# Altium integrated library Microchip PIC16 Part 1.IntLib: 1800 symbols (part 26 of 93)
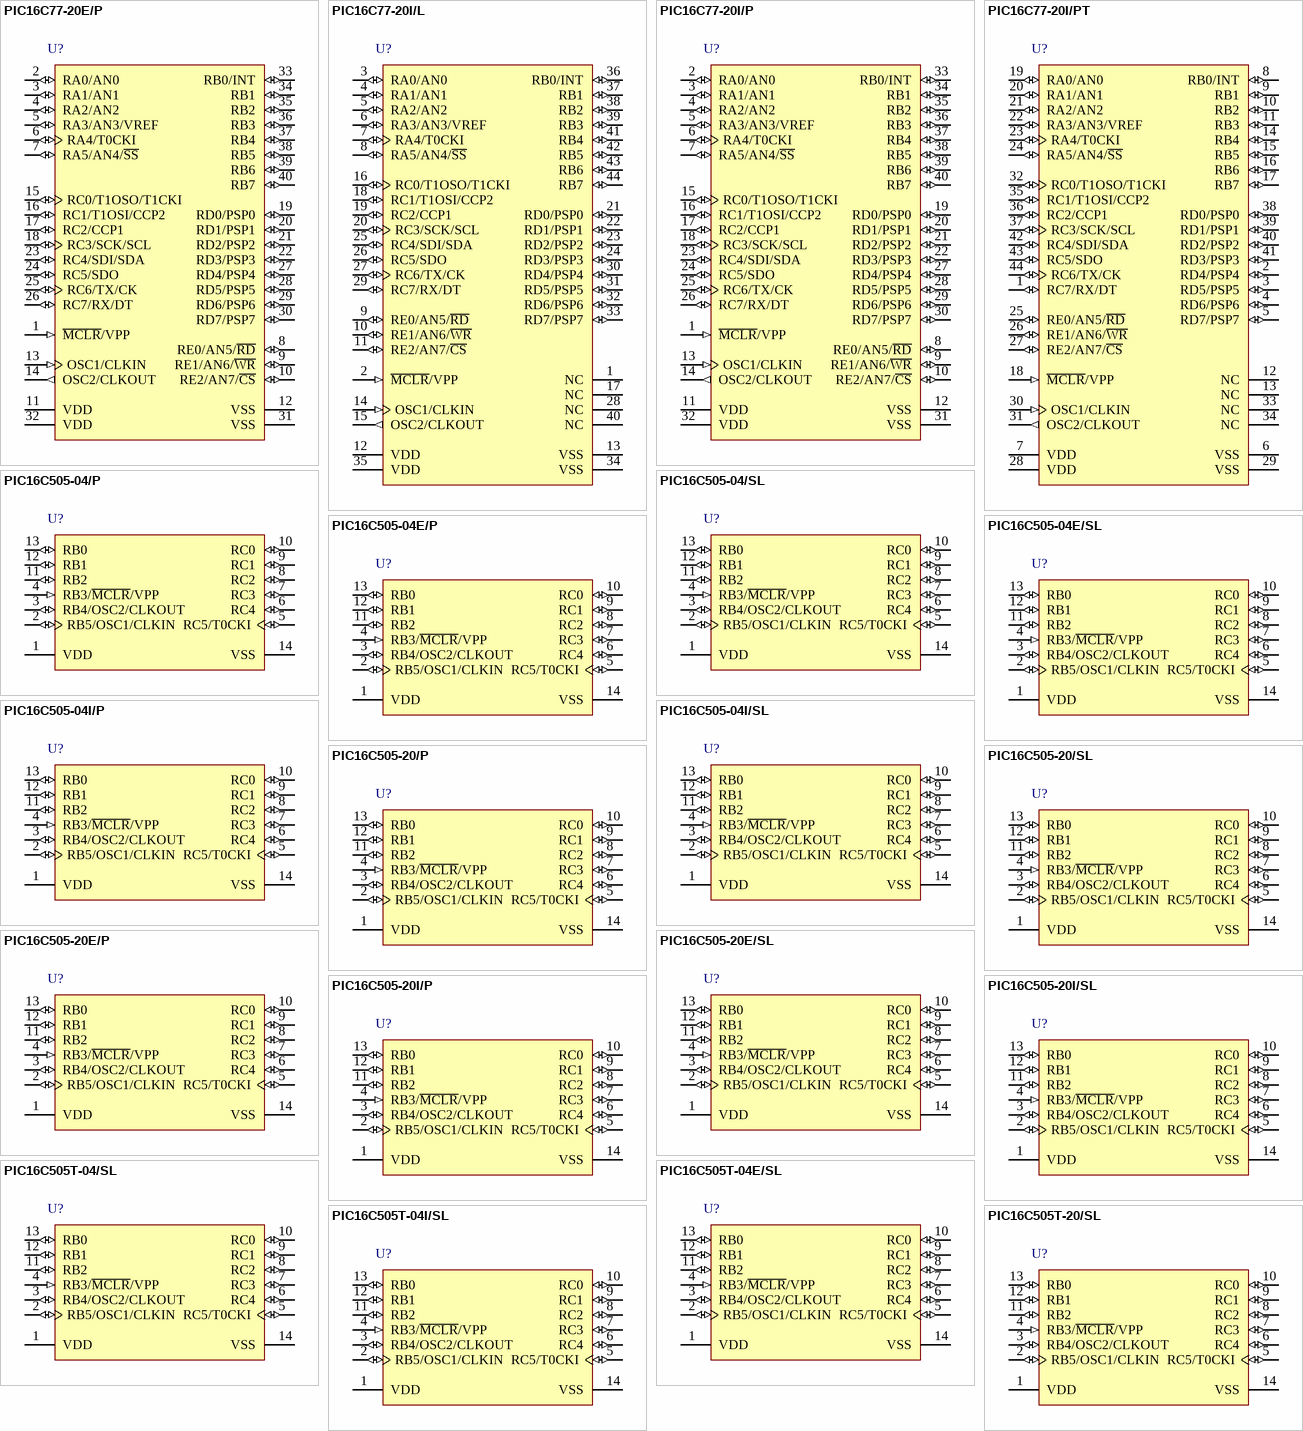
[diagram p125: symbols PIC16C77-20E/P to PIC16C505T-20/SL]

## PIC16C77-20I/PT
designator U?
8-Bit CMOS Microcontroller with A/D Converter, 20 MHz, 33 I/O, -40 to 85 degC, 44-pin TQFP (PT44), Tray; Manufacturer: Microchip; PartNumber: PIC16C77-20I/PT; # of A/D Channels: 8; Digital Communication: 0 -UART, 1 -A/E/USART, 0 -SPI, 0 -I2C, 0 -MSSP(SPI/I2C), 1 -SSP(SPI/I2C); I/O Pins: 33; Max. CPU Speed MHz: 20; Memory Type: OTP; Operation Voltage Range: 2.5V - 6V; Program Memory KBytes: 14; RAM: 368; Timers: 2 - 8-bit, 1 - 16-bit; DatasheetVersion: Rev. E; PackageVersion: C04-076B, 12/2012; PackageReference: TQFP-PT44; PackageDescription: 44-Lead Plastic Thin Quad Flatpack, 10 x 10 mm Body, 0.8 mm Pitch; Supplier 1: Digi-Key; Supplier Part Number 1: PIC16C77-20I/PT-ND; Supplier 2: Mouser; Supplier Part Number 2: 579-PIC16C77-20I/PT; Packing: TRAY; Program Memory KWords: 8; RoHS: TRUE; Mounting Technology: Surface Mount; ComponentLink1Description: Datasheet; ComponentLink1URL: http://ww1.microchip.com/downloads/en/DeviceDoc/30390e.pdf; ComponentLink2Description: Package Specification; ComponentLink2URL: http://www.microchip.com/stellent/groups/techpub_sg/documents/packagingspec/en012702.pdf; ComponentLink3Description: URL Link1; ComponentLink3URL: Product URL:http://www.microchip.com/datasheet/PIC16C77
footprint MCHP-TQFP-PT44_N (QFN, 44-Leads, Body 10x10mm, Pitch 0.8mm, IPC Medium Density)
footprint MCHP-TQFP-PT44_L (QFN, 44-Leads, Body 10x10mm, Pitch 0.8mm, IPC High Density)
footprint MCHP-TQFP-PT44_M (QFN, 44-Leads, Body 10x10mm, Pitch 0.8mm, IPC Low Density)
pins: 1 RC7/RX/DT (io), 2 RD4/PSP4 (io), 3 RD5/PSP5 (io), 4 RD6/PSP6 (io), 5 RD7/PSP7 (io), 6 VSS (power) "Ground reference for logic and I/O pins.", 7 VDD (power) "Positive supply for logic and I/O pins.", 8 RB0/INT (io), 9 RB1 (io) "PORTB is a bi-directional I/O port. PORTB can be software programmed for internal weak pull-up on all inputs.", 10 RB2 (io) "PORTB is a bi-directional I/O port. PORTB can be software programmed for internal weak pull-up on all inputs.", 11 RB3 (io) "PORTB is a bi-directional I/O port. PORTB can be software programmed for internal weak pull-up on all inputs.", 12 NC "These pins are not internally connected. These pins should be left unconnected.", 13 NC "These pins are not internally connected. These pins should be left unconnected.", 14 RB4 (io) "PORTB is a bi-directional I/O port. PORTB can be software programmed for internal weak pull-up on all inputs. Interrupt on change pin.", 15 RB5 (io) "PORTB is a bi-directional I/O port. PORTB can be software programmed for internal weak pull-up on all inputs. Interrupt on change pin.", 16 RB6 (io) "PORTB is a bi-directional I/O port. PORTB can be software programmed for internal weak pull-up on all inputs. Interrupt on change pin. Serial programming clock.", 17 RB7 (io) "PORTB is a bi-directional I/O port. PORTB can be software programmed for internal weak pull-up on all inputs. Interrupt on change pin. Serial programming data.", 18 ~{MCLR}/VPP (in), 19 RA0/AN0 (io), 20 RA1/AN1 (io), 21 RA2/AN2 (io), 22 RA3/AN3/VREF (io), 23 RA4/T0CKI (io), 24 RA5/AN4/~{SS} (io), 25 RE0/AN5/~{RD} (io), 26 RE1/AN6/~{WR} (io), 27 RE2/AN7/~{CS} (io), 28 VDD (power) "Positive supply for logic and I/O pins.", 29 VSS (power) "Ground reference for logic and I/O pins.", 30 OSC1/CLKIN (in), 31 OSC2/CLKOUT (out), 32 RC0/T1OSO/T1CKI (io), 33 NC "These pins are not internally connected. These pins should be left unconnected.", 34 NC "These pins are not internally connected. These pins should be left unconnected.", 35 RC1/T1OSI/CCP2 (io), 36 RC2/CCP1 (io), 37 RC3/SCK/SCL (io), 38 RD0/PSP0 (io), 39 RD1/PSP1 (io), 40 RD2/PSP2 (io), 41 RD3/PSP3 (io), 42 RC4/SDI/SDA (io), 43 RC5/SDO (io), 44 RC6/TX/CK (io)

## PIC16C505-04/P
designator U?
8-Bit CMOS Microcontroller, 4 MHz, 11 I/O, 0 to 70 degC, 14-pin PDIP (P14), Tube; Manufacturer: Microchip; PartNumber: PIC16C505-04/P; Digital Communication: 0 -UART, 0 -A/E/USART, 0 -SPI, 0 -I2C; I/O Pins: 11; Internal Oscillator: 4 MHz; Max. CPU Speed MHz: 4; Memory Type: OTP; Operation Voltage Range: 2.5V - 5.5V; Program Memory KBytes: 1.5; Program Memory KWords: 1; RAM: 72; Timers: 1 - 8-bit; DatasheetVersion: Rev. D; PackageVersion: C04-005B, 12/2012; PackageReference: PDIP-P14; PackageDescription: 14-Lead Plastic Dual In-Line, 6.6 x 19.18 mm Body, 2.54 mm Pitch; Supplier 1: Digi-Key; Supplier Part Number 1: PIC16C505-04/P-ND; Supplier 2: Farnell; Supplier Part Number 2: 9759077; Supplier 3: Newark; Supplier Part Number 3: 61K3435; Supplier 4: Mouser; Supplier Part Number 4: 579-PIC16C50504P; Packing: TUBE; RoHS: TRUE; Mounting Technology: Through Hole; ComponentLink1Description: Datasheet; ComponentLink1URL: http://ww1.microchip.com/downloads/en/DeviceDoc/40192D.pdf; ComponentLink2Description: Package Specification; ComponentLink2URL: http://www.microchip.com/stellent/groups/techpub_sg/documents/packagingspec/en012702.pdf; ComponentLink3Description: URL Link1; ComponentLink3URL: Product URL:http://www.microchip.com/datasheet/PIC16C505
footprint MCHP-PDIP-P14 (DIP, 14-Leads, Body 19.177x6.604mm, Pitch 2.54mm)
pins: 1 VDD (power) "Positive supply for logic and I/O pins", 2 RB5/OSC1/CLKIN (io), 3 RB4/OSC2/CLKOUT (io), 4 RB3/~{MCLR}/VPP (in), 5 RC5/T0CKI (io), 6 RC4 (io) "Bi-directional I/O port.", 7 RC3 (io) "Bi-directional I/O port.", 8 RC2 (io) "Bi-directional I/O port.", 9 RC1 (io) "Bi-directional I/O port.", 10 RC0 (io) "Bi-directional I/O port.", 11 RB2 (io) "Bi-directional I/O port.", 12 RB1 (io) "Bi-directional I/O port/serial programming clock. Canbe software programmed for internal weak pull-up and wake-up from SLEEP on pin change. This buffer is aSchmitt Trigger input when used in serial programmingmode.", 13 RB0 (io) "Bi-directional I/O port/serial programming data. Can be software programmed for internal weak pull-up and wake-up from SLEEP on pin change. This buffer is a Schmitt Trigger input when used in serial programming mode.", 14 VSS (power) "Ground reference for logic and I/O pins"

## PIC16C505-04/SL
designator U?
8-Bit CMOS Microcontroller, 4 MHz, 11 I/O, 0 to 70 degC, 14-pin SOIC (SL14), Tube; Manufacturer: Microchip; PartNumber: PIC16C505-04/SL; Digital Communication: 0 -UART, 0 -A/E/USART, 0 -SPI, 0 -I2C; I/O Pins: 11; Internal Oscillator: 4 MHz; Max. CPU Speed MHz: 4; Memory Type: OTP; Operation Voltage Range: 2.5V - 5.5V; Program Memory KBytes: 1.5; Program Memory KWords: 1; RAM: 72; Timers: 1 - 8-bit; DatasheetVersion: Rev. D; PackageVersion: C04-065C, 12/2012; PackageReference: SOIC-SL14; PackageDescription: 14-Lead Plastic Small Outline, 8.65 x 3.9 mm Body, 1.27 mm Pitch; Supplier 1: Digi-Key; Supplier Part Number 1: PIC16C505-04/SL-ND; Supplier 2: Farnell; Supplier Part Number 2: 9759085; Supplier 3: Newark; Supplier Part Number 3: 97K7168; Supplier 4: Newark; Supplier Part Number 4: 96K3781; Supplier 5: Mouser; Supplier Part Number 5: 579-PIC16C50504SL; Packing: TUBE; RoHS: TRUE; Mounting Technology: Surface Mount; ComponentLink1Description: Datasheet; ComponentLink1URL: http://ww1.microchip.com/downloads/en/DeviceDoc/40192D.pdf; ComponentLink2Description: Package Specification; ComponentLink2URL: http://www.microchip.com/stellent/groups/techpub_sg/documents/packagingspec/en012702.pdf; ComponentLink3Description: URL Link1; ComponentLink3URL: Product URL:http://www.microchip.com/datasheet/PIC16C505
footprint MCHP-SOIC-SL14_N (SOIC, 14-Leads, Body 8.65x3.9mm, Pitch 1.27mm, IPC Medium Density)
footprint MCHP-SOIC-SL14_L (SOIC, 14-Leads, Body 8.65x3.9mm, Pitch 1.27mm, IPC High Density)
footprint MCHP-SOIC-SL14_M (SOIC, 14-Leads, Body 8.65x3.9mm, Pitch 1.27mm, IPC Low Density)
pins: 1 VDD (power) "Positive supply for logic and I/O pins", 2 RB5/OSC1/CLKIN (io), 3 RB4/OSC2/CLKOUT (io), 4 RB3/~{MCLR}/VPP (in), 5 RC5/T0CKI (io), 6 RC4 (io) "Bi-directional I/O port.", 7 RC3 (io) "Bi-directional I/O port.", 8 RC2 (io) "Bi-directional I/O port.", 9 RC1 (io) "Bi-directional I/O port.", 10 RC0 (io) "Bi-directional I/O port.", 11 RB2 (io) "Bi-directional I/O port.", 12 RB1 (io) "Bi-directional I/O port/serial programming clock. Canbe software programmed for internal weak pull-up and wake-up from SLEEP on pin change. This buffer is aSchmitt Trigger input when used in serial programmingmode.", 13 RB0 (io) "Bi-directional I/O port/serial programming data. Can be software programmed for internal weak pull-up and wake-up from SLEEP on pin change. This buffer is a Schmitt Trigger input when used in serial programming mode.", 14 VSS (power) "Ground reference for logic and I/O pins"

## PIC16C505-04E/P
designator U?
8-Bit CMOS Microcontroller, 4 MHz, 11 I/O, -40 to 125 degC, 14-pin PDIP (P14), Tube; Manufacturer: Microchip; PartNumber: PIC16C505-04E/P; Digital Communication: 0 -UART, 0 -A/E/USART, 0 -SPI, 0 -I2C; I/O Pins: 11; Internal Oscillator: 4 MHz; Max. CPU Speed MHz: 4; Memory Type: OTP; Operation Voltage Range: 2.5V - 5.5V; Program Memory KBytes: 1.5; Program Memory KWords: 1; RAM: 72; Timers: 1 - 8-bit; DatasheetVersion: Rev. D; PackageVersion: C04-005B, 12/2012; PackageReference: PDIP-P14; PackageDescription: 14-Lead Plastic Dual In-Line, 6.6 x 19.18 mm Body, 2.54 mm Pitch; Supplier 1: Digi-Key; Supplier Part Number 1: PIC16C505-04E/P-ND; Supplier 2: Mouser; Supplier Part Number 2: 579-PIC16C505-04E/P; Packing: TUBE; RoHS: TRUE; Mounting Technology: Through Hole; ComponentLink1Description: Datasheet; ComponentLink1URL: http://ww1.microchip.com/downloads/en/DeviceDoc/40192D.pdf; ComponentLink2Description: Package Specification; ComponentLink2URL: http://www.microchip.com/stellent/groups/techpub_sg/documents/packagingspec/en012702.pdf; ComponentLink3Description: URL Link1; ComponentLink3URL: Product URL:http://www.microchip.com/datasheet/PIC16C505
footprint MCHP-PDIP-P14 (DIP, 14-Leads, Body 19.177x6.604mm, Pitch 2.54mm)
pins: 1 VDD (power) "Positive supply for logic and I/O pins", 2 RB5/OSC1/CLKIN (io), 3 RB4/OSC2/CLKOUT (io), 4 RB3/~{MCLR}/VPP (in), 5 RC5/T0CKI (io), 6 RC4 (io) "Bi-directional I/O port.", 7 RC3 (io) "Bi-directional I/O port.", 8 RC2 (io) "Bi-directional I/O port.", 9 RC1 (io) "Bi-directional I/O port.", 10 RC0 (io) "Bi-directional I/O port.", 11 RB2 (io) "Bi-directional I/O port.", 12 RB1 (io) "Bi-directional I/O port/serial programming clock. Canbe software programmed for internal weak pull-up and wake-up from SLEEP on pin change. This buffer is aSchmitt Trigger input when used in serial programmingmode.", 13 RB0 (io) "Bi-directional I/O port/serial programming data. Can be software programmed for internal weak pull-up and wake-up from SLEEP on pin change. This buffer is a Schmitt Trigger input when used in serial programming mode.", 14 VSS (power) "Ground reference for logic and I/O pins"

## PIC16C505-04E/SL
designator U?
8-Bit CMOS Microcontroller, 4 MHz, 11 I/O, -40 to 125 degC, 14-pin SOIC (SL14), Tube; Manufacturer: Microchip; PartNumber: PIC16C505-04E/SL; Digital Communication: 0 -UART, 0 -A/E/USART, 0 -SPI, 0 -I2C; I/O Pins: 11; Internal Oscillator: 4 MHz; Max. CPU Speed MHz: 4; Memory Type: OTP; Operation Voltage Range: 2.5V - 5.5V; Program Memory KBytes: 1.5; Program Memory KWords: 1; RAM: 72; Timers: 1 - 8-bit; DatasheetVersion: Rev. D; PackageVersion: C04-065C, 12/2012; PackageReference: SOIC-SL14; PackageDescription: 14-Lead Plastic Small Outline, 8.65 x 3.9 mm Body, 1.27 mm Pitch; Supplier 1: Digi-Key; Supplier Part Number 1: PIC16C505-04E/SL-ND; Supplier 2: Mouser; Supplier Part Number 2: 579-PIC16C505-04E/SL; Packing: TUBE; RoHS: TRUE; Mounting Technology: Surface Mount; ComponentLink1Description: Datasheet; ComponentLink1URL: http://ww1.microchip.com/downloads/en/DeviceDoc/40192D.pdf; ComponentLink2Description: Package Specification; ComponentLink2URL: http://www.microchip.com/stellent/groups/techpub_sg/documents/packagingspec/en012702.pdf; ComponentLink3Description: URL Link1; ComponentLink3URL: Product URL:http://www.microchip.com/datasheet/PIC16C505
footprint MCHP-SOIC-SL14_N (SOIC, 14-Leads, Body 8.65x3.9mm, Pitch 1.27mm, IPC Medium Density)
footprint MCHP-SOIC-SL14_L (SOIC, 14-Leads, Body 8.65x3.9mm, Pitch 1.27mm, IPC High Density)
footprint MCHP-SOIC-SL14_M (SOIC, 14-Leads, Body 8.65x3.9mm, Pitch 1.27mm, IPC Low Density)
pins: 1 VDD (power) "Positive supply for logic and I/O pins", 2 RB5/OSC1/CLKIN (io), 3 RB4/OSC2/CLKOUT (io), 4 RB3/~{MCLR}/VPP (in), 5 RC5/T0CKI (io), 6 RC4 (io) "Bi-directional I/O port.", 7 RC3 (io) "Bi-directional I/O port.", 8 RC2 (io) "Bi-directional I/O port.", 9 RC1 (io) "Bi-directional I/O port.", 10 RC0 (io) "Bi-directional I/O port.", 11 RB2 (io) "Bi-directional I/O port.", 12 RB1 (io) "Bi-directional I/O port/serial programming clock. Canbe software programmed for internal weak pull-up and wake-up from SLEEP on pin change. This buffer is aSchmitt Trigger input when used in serial programmingmode.", 13 RB0 (io) "Bi-directional I/O port/serial programming data. Can be software programmed for internal weak pull-up and wake-up from SLEEP on pin change. This buffer is a Schmitt Trigger input when used in serial programming mode.", 14 VSS (power) "Ground reference for logic and I/O pins"

## PIC16C505-04I/P
designator U?
8-Bit CMOS Microcontroller, 4 MHz, 11 I/O, -40 to 85 degC, 14-pin PDIP (P14), Tube; Manufacturer: Microchip; PartNumber: PIC16C505-04I/P; Digital Communication: 0 -UART, 0 -A/E/USART, 0 -SPI, 0 -I2C; I/O Pins: 11; Internal Oscillator: 4 MHz; Max. CPU Speed MHz: 4; Memory Type: OTP; Operation Voltage Range: 2.5V - 5.5V; Program Memory KBytes: 1.5; Program Memory KWords: 1; RAM: 72; Timers: 1 - 8-bit; DatasheetVersion: Rev. D; PackageVersion: C04-005B, 12/2012; PackageReference: PDIP-P14; PackageDescription: 14-Lead Plastic Dual In-Line, 6.6 x 19.18 mm Body, 2.54 mm Pitch; Supplier 1: Digi-Key; Supplier Part Number 1: PIC16C505-04I/P-ND; Supplier 2: Newark; Supplier Part Number 2: 61K3436; Supplier 3: Mouser; Supplier Part Number 3: 579-PIC16C50504IP; Packing: TUBE; RoHS: TRUE; Mounting Technology: Through Hole; ComponentLink1Description: Datasheet; ComponentLink1URL: http://ww1.microchip.com/downloads/en/DeviceDoc/40192D.pdf; ComponentLink2Description: Package Specification; ComponentLink2URL: http://www.microchip.com/stellent/groups/techpub_sg/documents/packagingspec/en012702.pdf; ComponentLink3Description: URL Link1; ComponentLink3URL: Product URL:http://www.microchip.com/datasheet/PIC16C505
footprint MCHP-PDIP-P14 (DIP, 14-Leads, Body 19.177x6.604mm, Pitch 2.54mm)
pins: 1 VDD (power) "Positive supply for logic and I/O pins", 2 RB5/OSC1/CLKIN (io), 3 RB4/OSC2/CLKOUT (io), 4 RB3/~{MCLR}/VPP (in), 5 RC5/T0CKI (io), 6 RC4 (io) "Bi-directional I/O port.", 7 RC3 (io) "Bi-directional I/O port.", 8 RC2 (io) "Bi-directional I/O port.", 9 RC1 (io) "Bi-directional I/O port.", 10 RC0 (io) "Bi-directional I/O port.", 11 RB2 (io) "Bi-directional I/O port.", 12 RB1 (io) "Bi-directional I/O port/serial programming clock. Canbe software programmed for internal weak pull-up and wake-up from SLEEP on pin change. This buffer is aSchmitt Trigger input when used in serial programmingmode.", 13 RB0 (io) "Bi-directional I/O port/serial programming data. Can be software programmed for internal weak pull-up and wake-up from SLEEP on pin change. This buffer is a Schmitt Trigger input when used in serial programming mode.", 14 VSS (power) "Ground reference for logic and I/O pins"

## PIC16C505-04I/SL
designator U?
8-Bit CMOS Microcontroller, 4 MHz, 11 I/O, -40 to 85 degC, 14-pin SOIC (SL14), Tube; Manufacturer: Microchip; PartNumber: PIC16C505-04I/SL; Digital Communication: 0 -UART, 0 -A/E/USART, 0 -SPI, 0 -I2C; I/O Pins: 11; Internal Oscillator: 4 MHz; Max. CPU Speed MHz: 4; Memory Type: OTP; Operation Voltage Range: 2.5V - 5.5V; Program Memory KBytes: 1.5; Program Memory KWords: 1; RAM: 72; Timers: 1 - 8-bit; DatasheetVersion: Rev. D; PackageVersion: C04-065C, 12/2012; PackageReference: SOIC-SL14; PackageDescription: 14-Lead Plastic Small Outline, 8.65 x 3.9 mm Body, 1.27 mm Pitch; Supplier 1: Digi-Key; Supplier Part Number 1: PIC16C505-04I/SL-ND; Supplier 2: Farnell; Supplier Part Number 2: 1196809; Supplier 3: Newark; Supplier Part Number 3: 12C1867; Supplier 4: Mouser; Supplier Part Number 4: 579-PIC16C505-04I/SL; Packing: TUBE; RoHS: TRUE; Mounting Technology: Surface Mount; ComponentLink1Description: Datasheet; ComponentLink1URL: http://ww1.microchip.com/downloads/en/DeviceDoc/40192D.pdf; ComponentLink2Description: Package Specification; ComponentLink2URL: http://www.microchip.com/stellent/groups/techpub_sg/documents/packagingspec/en012702.pdf; ComponentLink3Description: URL Link1; ComponentLink3URL: Product URL:http://www.microchip.com/datasheet/PIC16C505
footprint MCHP-SOIC-SL14_N (SOIC, 14-Leads, Body 8.65x3.9mm, Pitch 1.27mm, IPC Medium Density)
footprint MCHP-SOIC-SL14_L (SOIC, 14-Leads, Body 8.65x3.9mm, Pitch 1.27mm, IPC High Density)
footprint MCHP-SOIC-SL14_M (SOIC, 14-Leads, Body 8.65x3.9mm, Pitch 1.27mm, IPC Low Density)
pins: 1 VDD (power) "Positive supply for logic and I/O pins", 2 RB5/OSC1/CLKIN (io), 3 RB4/OSC2/CLKOUT (io), 4 RB3/~{MCLR}/VPP (in), 5 RC5/T0CKI (io), 6 RC4 (io) "Bi-directional I/O port.", 7 RC3 (io) "Bi-directional I/O port.", 8 RC2 (io) "Bi-directional I/O port.", 9 RC1 (io) "Bi-directional I/O port.", 10 RC0 (io) "Bi-directional I/O port.", 11 RB2 (io) "Bi-directional I/O port.", 12 RB1 (io) "Bi-directional I/O port/serial programming clock. Canbe software programmed for internal weak pull-up and wake-up from SLEEP on pin change. This buffer is aSchmitt Trigger input when used in serial programmingmode.", 13 RB0 (io) "Bi-directional I/O port/serial programming data. Can be software programmed for internal weak pull-up and wake-up from SLEEP on pin change. This buffer is a Schmitt Trigger input when used in serial programming mode.", 14 VSS (power) "Ground reference for logic and I/O pins"

## PIC16C505-20/P
designator U?
8-Bit CMOS Microcontroller, 20 MHz, 11 I/O, 0 to 70 degC, 14-pin PDIP (P14), Tube; Manufacturer: Microchip; PartNumber: PIC16C505-20/P; Digital Communication: 0 -UART, 0 -A/E/USART, 0 -SPI, 0 -I2C; EEPROM Data Memory (bytes): 72; I/O Pins: 11; Internal Oscillator: 4 MHz; Max. CPU Speed MHz: 20; Memory Type: OTP; Operation Voltage Range: 2.5V - 5.5V; Program Memory KBytes: 1.5; Program Memory KWords: 1; Timers: 1 - 8-bit; DatasheetVersion: Rev. D; PackageVersion: C04-005B, 12/2012; PackageReference: PDIP-P14; PackageDescription: 14-Lead Plastic Dual In-Line, 6.6 x 19.18 mm Body, 2.54 mm Pitch; Supplier 1: Digi-Key; Supplier Part Number 1: PIC16C505-20/P-ND; Supplier 2: Newark; Supplier Part Number 2: 96K3782; Supplier 3: Mouser; Supplier Part Number 3: 579-PIC16C50520P; Packing: TUBE; RAM: 72; RoHS: TRUE; Mounting Technology: Through Hole; ComponentLink1Description: Datasheet; ComponentLink1URL: http://ww1.microchip.com/downloads/en/DeviceDoc/40192D.pdf; ComponentLink2Description: Package Specification; ComponentLink2URL: http://www.microchip.com/stellent/groups/techpub_sg/documents/packagingspec/en012702.pdf; ComponentLink3Description: URL Link1; ComponentLink3URL: Product URL:http://www.microchip.com/datasheet/PIC16C505
footprint MCHP-PDIP-P14 (DIP, 14-Leads, Body 19.177x6.604mm, Pitch 2.54mm)
pins: 1 VDD (power) "Positive supply for logic and I/O pins", 2 RB5/OSC1/CLKIN (io), 3 RB4/OSC2/CLKOUT (io), 4 RB3/~{MCLR}/VPP (in), 5 RC5/T0CKI (io), 6 RC4 (io) "Bi-directional I/O port.", 7 RC3 (io) "Bi-directional I/O port.", 8 RC2 (io) "Bi-directional I/O port.", 9 RC1 (io) "Bi-directional I/O port.", 10 RC0 (io) "Bi-directional I/O port.", 11 RB2 (io) "Bi-directional I/O port.", 12 RB1 (io) "Bi-directional I/O port/serial programming clock. Canbe software programmed for internal weak pull-up and wake-up from SLEEP on pin change. This buffer is aSchmitt Trigger input when used in serial programmingmode.", 13 RB0 (io) "Bi-directional I/O port/serial programming data. Can be software programmed for internal weak pull-up and wake-up from SLEEP on pin change. This buffer is a Schmitt Trigger input when used in serial programming mode.", 14 VSS (power) "Ground reference for logic and I/O pins"

## PIC16C505-20/SL
designator U?
8-Bit CMOS Microcontroller, 20 MHz, 11 I/O, 0 to 70 degC, 14-pin SOIC (SL14), Tube; Manufacturer: Microchip; PartNumber: PIC16C505-20/SL; Digital Communication: 0 -UART, 0 -A/E/USART, 0 -SPI, 0 -I2C; EEPROM Data Memory (bytes): 72; I/O Pins: 11; Internal Oscillator: 4 MHz; Max. CPU Speed MHz: 20; Memory Type: OTP; Operation Voltage Range: 2.5V - 5.5V; Program Memory KBytes: 1.5; Program Memory KWords: 1; Timers: 1 - 8-bit; DatasheetVersion: Rev. D; PackageVersion: C04-065C, 12/2012; PackageReference: SOIC-SL14; PackageDescription: 14-Lead Plastic Small Outline, 8.65 x 3.9 mm Body, 1.27 mm Pitch; Supplier 1: Digi-Key; Supplier Part Number 1: PIC16C505-20/SL-ND; Supplier 2: Farnell; Supplier Part Number 2: 3624614; Supplier 3: Mouser; Supplier Part Number 3: 579-PIC16C50520SL; Packing: TUBE; RAM: 72; RoHS: TRUE; Mounting Technology: Surface Mount; ComponentLink1Description: Datasheet; ComponentLink1URL: http://ww1.microchip.com/downloads/en/DeviceDoc/40192D.pdf; ComponentLink2Description: Package Specification; ComponentLink2URL: http://www.microchip.com/stellent/groups/techpub_sg/documents/packagingspec/en012702.pdf; ComponentLink3Description: URL Link1; ComponentLink3URL: Product URL:http://www.microchip.com/datasheet/PIC16C505
footprint MCHP-SOIC-SL14_N (SOIC, 14-Leads, Body 8.65x3.9mm, Pitch 1.27mm, IPC Medium Density)
footprint MCHP-SOIC-SL14_L (SOIC, 14-Leads, Body 8.65x3.9mm, Pitch 1.27mm, IPC High Density)
footprint MCHP-SOIC-SL14_M (SOIC, 14-Leads, Body 8.65x3.9mm, Pitch 1.27mm, IPC Low Density)
pins: 1 VDD (power) "Positive supply for logic and I/O pins", 2 RB5/OSC1/CLKIN (io), 3 RB4/OSC2/CLKOUT (io), 4 RB3/~{MCLR}/VPP (in), 5 RC5/T0CKI (io), 6 RC4 (io) "Bi-directional I/O port.", 7 RC3 (io) "Bi-directional I/O port.", 8 RC2 (io) "Bi-directional I/O port.", 9 RC1 (io) "Bi-directional I/O port.", 10 RC0 (io) "Bi-directional I/O port.", 11 RB2 (io) "Bi-directional I/O port.", 12 RB1 (io) "Bi-directional I/O port/serial programming clock. Canbe software programmed for internal weak pull-up and wake-up from SLEEP on pin change. This buffer is aSchmitt Trigger input when used in serial programmingmode.", 13 RB0 (io) "Bi-directional I/O port/serial programming data. Can be software programmed for internal weak pull-up and wake-up from SLEEP on pin change. This buffer is a Schmitt Trigger input when used in serial programming mode.", 14 VSS (power) "Ground reference for logic and I/O pins"

## PIC16C505-20E/P
designator U?
8-Bit CMOS Microcontroller, 20 MHz, 11 I/O, -40 to 125 degC, 14-pin PDIP (P14), Tube; Manufacturer: Microchip; PartNumber: PIC16C505-20E/P; Digital Communication: 0 -UART, 0 -A/E/USART, 0 -SPI, 0 -I2C; EEPROM Data Memory (bytes): 72; I/O Pins: 11; Internal Oscillator: 4 MHz; Max. CPU Speed MHz: 20; Memory Type: OTP; Operation Voltage Range: 2.5V - 5.5V; Program Memory KBytes: 1.5; Program Memory KWords: 1; Timers: 1 - 8-bit; DatasheetVersion: Rev. D; PackageVersion: C04-005B, 12/2012; PackageReference: PDIP-P14; PackageDescription: 14-Lead Plastic Dual In-Line, 6.6 x 19.18 mm Body, 2.54 mm Pitch; Supplier 1: Digi-Key; Supplier Part Number 1: PIC16C505-20E/P-ND; Supplier 2: Mouser; Supplier Part Number 2: 579-PIC16C505-20E/P; Packing: TUBE; RAM: 72; RoHS: TRUE; Mounting Technology: Through Hole; ComponentLink1Description: Datasheet; ComponentLink1URL: http://ww1.microchip.com/downloads/en/DeviceDoc/40192D.pdf; ComponentLink2Description: Package Specification; ComponentLink2URL: http://www.microchip.com/stellent/groups/techpub_sg/documents/packagingspec/en012702.pdf; ComponentLink3Description: URL Link1; ComponentLink3URL: Product URL:http://www.microchip.com/datasheet/PIC16C505
footprint MCHP-PDIP-P14 (DIP, 14-Leads, Body 19.177x6.604mm, Pitch 2.54mm)
pins: 1 VDD (power) "Positive supply for logic and I/O pins", 2 RB5/OSC1/CLKIN (io), 3 RB4/OSC2/CLKOUT (io), 4 RB3/~{MCLR}/VPP (in), 5 RC5/T0CKI (io), 6 RC4 (io) "Bi-directional I/O port.", 7 RC3 (io) "Bi-directional I/O port.", 8 RC2 (io) "Bi-directional I/O port.", 9 RC1 (io) "Bi-directional I/O port.", 10 RC0 (io) "Bi-directional I/O port.", 11 RB2 (io) "Bi-directional I/O port.", 12 RB1 (io) "Bi-directional I/O port/serial programming clock. Canbe software programmed for internal weak pull-up and wake-up from SLEEP on pin change. This buffer is aSchmitt Trigger input when used in serial programmingmode.", 13 RB0 (io) "Bi-directional I/O port/serial programming data. Can be software programmed for internal weak pull-up and wake-up from SLEEP on pin change. This buffer is a Schmitt Trigger input when used in serial programming mode.", 14 VSS (power) "Ground reference for logic and I/O pins"

## PIC16C505-20E/SL
designator U?
8-Bit CMOS Microcontroller, 20 MHz, 11 I/O, -40 to 125 degC, 14-pin SOIC (SL14), Tube; Manufacturer: Microchip; PartNumber: PIC16C505-20E/SL; Digital Communication: 0 -UART, 0 -A/E/USART, 0 -SPI, 0 -I2C; EEPROM Data Memory (bytes): 72; I/O Pins: 11; Internal Oscillator: 4 MHz; Max. CPU Speed MHz: 20; Memory Type: OTP; Operation Voltage Range: 2.5V - 5.5V; Program Memory KBytes: 1.5; Program Memory KWords: 1; Timers: 1 - 8-bit; DatasheetVersion: Rev. D; PackageVersion: C04-065C, 12/2012; PackageReference: SOIC-SL14; PackageDescription: 14-Lead Plastic Small Outline, 8.65 x 3.9 mm Body, 1.27 mm Pitch; Supplier 1: Digi-Key; Supplier Part Number 1: PIC16C505-20E/SL-ND; Supplier 2: Mouser; Supplier Part Number 2: 579-PIC16C505-20E/SL; Packing: TUBE; RAM: 72; RoHS: TRUE; Mounting Technology: Surface Mount; ComponentLink1Description: Datasheet; ComponentLink1URL: http://ww1.microchip.com/downloads/en/DeviceDoc/40192D.pdf; ComponentLink2Description: Package Specification; ComponentLink2URL: http://www.microchip.com/stellent/groups/techpub_sg/documents/packagingspec/en012702.pdf; ComponentLink3Description: URL Link1; ComponentLink3URL: Product URL:http://www.microchip.com/datasheet/PIC16C505
footprint MCHP-SOIC-SL14_N (SOIC, 14-Leads, Body 8.65x3.9mm, Pitch 1.27mm, IPC Medium Density)
footprint MCHP-SOIC-SL14_L (SOIC, 14-Leads, Body 8.65x3.9mm, Pitch 1.27mm, IPC High Density)
footprint MCHP-SOIC-SL14_M (SOIC, 14-Leads, Body 8.65x3.9mm, Pitch 1.27mm, IPC Low Density)
pins: 1 VDD (power) "Positive supply for logic and I/O pins", 2 RB5/OSC1/CLKIN (io), 3 RB4/OSC2/CLKOUT (io), 4 RB3/~{MCLR}/VPP (in), 5 RC5/T0CKI (io), 6 RC4 (io) "Bi-directional I/O port.", 7 RC3 (io) "Bi-directional I/O port.", 8 RC2 (io) "Bi-directional I/O port.", 9 RC1 (io) "Bi-directional I/O port.", 10 RC0 (io) "Bi-directional I/O port.", 11 RB2 (io) "Bi-directional I/O port.", 12 RB1 (io) "Bi-directional I/O port/serial programming clock. Canbe software programmed for internal weak pull-up and wake-up from SLEEP on pin change. This buffer is aSchmitt Trigger input when used in serial programmingmode.", 13 RB0 (io) "Bi-directional I/O port/serial programming data. Can be software programmed for internal weak pull-up and wake-up from SLEEP on pin change. This buffer is a Schmitt Trigger input when used in serial programming mode.", 14 VSS (power) "Ground reference for logic and I/O pins"

## PIC16C505-20I/P
designator U?
8-Bit CMOS Microcontroller, 20 MHz, 11 I/O, -40 to 85 degC, 14-pin PDIP (P14), Tube; Manufacturer: Microchip; PartNumber: PIC16C505-20I/P; Digital Communication: 0 -UART, 0 -A/E/USART, 0 -SPI, 0 -I2C; EEPROM Data Memory (bytes): 72; I/O Pins: 11; Internal Oscillator: 4 MHz; Max. CPU Speed MHz: 20; Memory Type: OTP; Operation Voltage Range: 2.5V - 5.5V; Program Memory KBytes: 1.5; Program Memory KWords: 1; Timers: 1 - 8-bit; DatasheetVersion: Rev. D; PackageVersion: C04-005B, 12/2012; PackageReference: PDIP-P14; PackageDescription: 14-Lead Plastic Dual In-Line, 6.6 x 19.18 mm Body, 2.54 mm Pitch; Supplier 1: Digi-Key; Supplier Part Number 1: PIC16C505-20I/P-ND; Supplier 2: Farnell; Supplier Part Number 2: 9759093; Supplier 3: Newark; Supplier Part Number 3: 97K7171; Supplier 4: Newark; Supplier Part Number 4: 23C3174; Supplier 5: Mouser; Supplier Part Number 5: 579-PIC16C50520IP; Packing: TUBE; RAM: 72; RoHS: TRUE; Mounting Technology: Through Hole; ComponentLink1Description: Datasheet; ComponentLink1URL: http://ww1.microchip.com/downloads/en/DeviceDoc/40192D.pdf; ComponentLink2Description: Package Specification; ComponentLink2URL: http://www.microchip.com/stellent/groups/techpub_sg/documents/packagingspec/en012702.pdf; ComponentLink3Description: URL Link1; ComponentLink3URL: Product URL:http://www.microchip.com/datasheet/PIC16C505
footprint MCHP-PDIP-P14 (DIP, 14-Leads, Body 19.177x6.604mm, Pitch 2.54mm)
pins: 1 VDD (power) "Positive supply for logic and I/O pins", 2 RB5/OSC1/CLKIN (io), 3 RB4/OSC2/CLKOUT (io), 4 RB3/~{MCLR}/VPP (in), 5 RC5/T0CKI (io), 6 RC4 (io) "Bi-directional I/O port.", 7 RC3 (io) "Bi-directional I/O port.", 8 RC2 (io) "Bi-directional I/O port.", 9 RC1 (io) "Bi-directional I/O port.", 10 RC0 (io) "Bi-directional I/O port.", 11 RB2 (io) "Bi-directional I/O port.", 12 RB1 (io) "Bi-directional I/O port/serial programming clock. Canbe software programmed for internal weak pull-up and wake-up from SLEEP on pin change. This buffer is aSchmitt Trigger input when used in serial programmingmode.", 13 RB0 (io) "Bi-directional I/O port/serial programming data. Can be software programmed for internal weak pull-up and wake-up from SLEEP on pin change. This buffer is a Schmitt Trigger input when used in serial programming mode.", 14 VSS (power) "Ground reference for logic and I/O pins"

## PIC16C505-20I/SL
designator U?
8-Bit CMOS Microcontroller, 20 MHz, 11 I/O, -40 to 85 degC, 14-pin SOIC (SL14), Tube; Manufacturer: Microchip; PartNumber: PIC16C505-20I/SL; Digital Communication: 0 -UART, 0 -A/E/USART, 0 -SPI, 0 -I2C; EEPROM Data Memory (bytes): 72; I/O Pins: 11; Internal Oscillator: 4 MHz; Max. CPU Speed MHz: 20; Memory Type: OTP; Operation Voltage Range: 2.5V - 5.5V; Program Memory KBytes: 1.5; Program Memory KWords: 1; Timers: 1 - 8-bit; DatasheetVersion: Rev. D; PackageVersion: C04-065C, 12/2012; PackageReference: SOIC-SL14; PackageDescription: 14-Lead Plastic Small Outline, 8.65 x 3.9 mm Body, 1.27 mm Pitch; Supplier 1: Digi-Key; Supplier Part Number 1: PIC16C505-20I/SL-ND; Supplier 2: Newark; Supplier Part Number 2: 23C3175; Supplier 3: Mouser; Supplier Part Number 3: 579-PIC16C50520ISL; Packing: TUBE; RAM: 72; RoHS: TRUE; Mounting Technology: Surface Mount; ComponentLink1Description: Datasheet; ComponentLink1URL: http://ww1.microchip.com/downloads/en/DeviceDoc/40192D.pdf; ComponentLink2Description: Package Specification; ComponentLink2URL: http://www.microchip.com/stellent/groups/techpub_sg/documents/packagingspec/en012702.pdf; ComponentLink3Description: URL Link1; ComponentLink3URL: Product URL:http://www.microchip.com/datasheet/PIC16C505
footprint MCHP-SOIC-SL14_N (SOIC, 14-Leads, Body 8.65x3.9mm, Pitch 1.27mm, IPC Medium Density)
footprint MCHP-SOIC-SL14_L (SOIC, 14-Leads, Body 8.65x3.9mm, Pitch 1.27mm, IPC High Density)
footprint MCHP-SOIC-SL14_M (SOIC, 14-Leads, Body 8.65x3.9mm, Pitch 1.27mm, IPC Low Density)
pins: 1 VDD (power) "Positive supply for logic and I/O pins", 2 RB5/OSC1/CLKIN (io), 3 RB4/OSC2/CLKOUT (io), 4 RB3/~{MCLR}/VPP (in), 5 RC5/T0CKI (io), 6 RC4 (io) "Bi-directional I/O port.", 7 RC3 (io) "Bi-directional I/O port.", 8 RC2 (io) "Bi-directional I/O port.", 9 RC1 (io) "Bi-directional I/O port.", 10 RC0 (io) "Bi-directional I/O port.", 11 RB2 (io) "Bi-directional I/O port.", 12 RB1 (io) "Bi-directional I/O port/serial programming clock. Canbe software programmed for internal weak pull-up and wake-up from SLEEP on pin change. This buffer is aSchmitt Trigger input when used in serial programmingmode.", 13 RB0 (io) "Bi-directional I/O port/serial programming data. Can be software programmed for internal weak pull-up and wake-up from SLEEP on pin change. This buffer is a Schmitt Trigger input when used in serial programming mode.", 14 VSS (power) "Ground reference for logic and I/O pins"

## PIC16C505T-04/SL
designator U?
8-Bit CMOS Microcontroller, 4 MHz, 11 I/O, 0 to 70 degC, 14-pin SOIC (SL14), Tape and Reel; Manufacturer: Microchip; PartNumber: PIC16C505T-04/SL; Digital Communication: 0 -UART, 0 -A/E/USART, 0 -SPI, 0 -I2C; I/O Pins: 11; Internal Oscillator: 4 MHz; Max. CPU Speed MHz: 4; Memory Type: OTP; Operation Voltage Range: 2.5V - 5.5V; Packing: T/R; Program Memory KBytes: 1.5; Program Memory KWords: 1; RAM: 72; Timers: 1 - 8-bit; DatasheetVersion: Rev. D; PackageVersion: C04-065C, 12/2012; PackageReference: SOIC-SL14; PackageDescription: 14-Lead Plastic Small Outline, 8.65 x 3.9 mm Body, 1.27 mm Pitch; Supplier 1: Digi-Key; Supplier Part Number 1: PIC16C505T-04/SL-ND; Supplier 2: Mouser; Supplier Part Number 2: 579-PIC16C505T-04/SL; RoHS: TRUE; Mounting Technology: Surface Mount; ComponentLink1Description: Datasheet; ComponentLink1URL: http://ww1.microchip.com/downloads/en/DeviceDoc/40192D.pdf; ComponentLink2Description: Package Specification; ComponentLink2URL: http://www.microchip.com/stellent/groups/techpub_sg/documents/packagingspec/en012702.pdf; ComponentLink3Description: URL Link1; ComponentLink3URL: Product URL:http://www.microchip.com/datasheet/PIC16C505
footprint MCHP-SOIC-SL14_N (SOIC, 14-Leads, Body 8.65x3.9mm, Pitch 1.27mm, IPC Medium Density)
footprint MCHP-SOIC-SL14_L (SOIC, 14-Leads, Body 8.65x3.9mm, Pitch 1.27mm, IPC High Density)
footprint MCHP-SOIC-SL14_M (SOIC, 14-Leads, Body 8.65x3.9mm, Pitch 1.27mm, IPC Low Density)
pins: 1 VDD (power) "Positive supply for logic and I/O pins", 2 RB5/OSC1/CLKIN (io), 3 RB4/OSC2/CLKOUT (io), 4 RB3/~{MCLR}/VPP (in), 5 RC5/T0CKI (io), 6 RC4 (io) "Bi-directional I/O port.", 7 RC3 (io) "Bi-directional I/O port.", 8 RC2 (io) "Bi-directional I/O port.", 9 RC1 (io) "Bi-directional I/O port.", 10 RC0 (io) "Bi-directional I/O port.", 11 RB2 (io) "Bi-directional I/O port.", 12 RB1 (io) "Bi-directional I/O port/serial programming clock. Canbe software programmed for internal weak pull-up and wake-up from SLEEP on pin change. This buffer is aSchmitt Trigger input when used in serial programmingmode.", 13 RB0 (io) "Bi-directional I/O port/serial programming data. Can be software programmed for internal weak pull-up and wake-up from SLEEP on pin change. This buffer is a Schmitt Trigger input when used in serial programming mode.", 14 VSS (power) "Ground reference for logic and I/O pins"

## PIC16C505T-04E/SL
designator U?
8-Bit CMOS Microcontroller, 4 MHz, 11 I/O, -40 to 125 degC, 14-pin SOIC (SL14), Tape and Reel; Manufacturer: Microchip; PartNumber: PIC16C505T-04E/SL; Digital Communication: 0 -UART, 0 -A/E/USART, 0 -SPI, 0 -I2C; I/O Pins: 11; Internal Oscillator: 4 MHz; Max. CPU Speed MHz: 4; Memory Type: OTP; Operation Voltage Range: 2.5V - 5.5V; Packing: T/R; Program Memory KBytes: 1.5; Program Memory KWords: 1; RAM: 72; Timers: 1 - 8-bit; DatasheetVersion: Rev. D; PackageVersion: C04-065C, 12/2012; PackageReference: SOIC-SL14; PackageDescription: 14-Lead Plastic Small Outline, 8.65 x 3.9 mm Body, 1.27 mm Pitch; Supplier 1: Digi-Key; Supplier Part Number 1: PIC16C505T-04E/SL-ND; Supplier 2: Mouser; Supplier Part Number 2: 579-16C505T-04E/SL; RoHS: TRUE; Mounting Technology: Surface Mount; ComponentLink1Description: Datasheet; ComponentLink1URL: http://ww1.microchip.com/downloads/en/DeviceDoc/40192D.pdf; ComponentLink2Description: Package Specification; ComponentLink2URL: http://www.microchip.com/stellent/groups/techpub_sg/documents/packagingspec/en012702.pdf; ComponentLink3Description: URL Link1; ComponentLink3URL: Product URL:http://www.microchip.com/datasheet/PIC16C505
footprint MCHP-SOIC-SL14_N (SOIC, 14-Leads, Body 8.65x3.9mm, Pitch 1.27mm, IPC Medium Density)
footprint MCHP-SOIC-SL14_L (SOIC, 14-Leads, Body 8.65x3.9mm, Pitch 1.27mm, IPC High Density)
footprint MCHP-SOIC-SL14_M (SOIC, 14-Leads, Body 8.65x3.9mm, Pitch 1.27mm, IPC Low Density)
pins: 1 VDD (power) "Positive supply for logic and I/O pins", 2 RB5/OSC1/CLKIN (io), 3 RB4/OSC2/CLKOUT (io), 4 RB3/~{MCLR}/VPP (in), 5 RC5/T0CKI (io), 6 RC4 (io) "Bi-directional I/O port.", 7 RC3 (io) "Bi-directional I/O port.", 8 RC2 (io) "Bi-directional I/O port.", 9 RC1 (io) "Bi-directional I/O port.", 10 RC0 (io) "Bi-directional I/O port.", 11 RB2 (io) "Bi-directional I/O port.", 12 RB1 (io) "Bi-directional I/O port/serial programming clock. Canbe software programmed for internal weak pull-up and wake-up from SLEEP on pin change. This buffer is aSchmitt Trigger input when used in serial programmingmode.", 13 RB0 (io) "Bi-directional I/O port/serial programming data. Can be software programmed for internal weak pull-up and wake-up from SLEEP on pin change. This buffer is a Schmitt Trigger input when used in serial programming mode.", 14 VSS (power) "Ground reference for logic and I/O pins"

## PIC16C505T-04I/SL
designator U?
8-Bit CMOS Microcontroller, 4 MHz, 11 I/O, -40 to 85 degC, 14-pin SOIC (SL14), Tape and Reel; Manufacturer: Microchip; PartNumber: PIC16C505T-04I/SL; Digital Communication: 0 -UART, 0 -A/E/USART, 0 -SPI, 0 -I2C; I/O Pins: 11; Internal Oscillator: 4 MHz; Max. CPU Speed MHz: 4; Memory Type: OTP; Operation Voltage Range: 2.5V - 5.5V; Packing: T/R; Program Memory KBytes: 1.5; Program Memory KWords: 1; RAM: 72; Timers: 1 - 8-bit; DatasheetVersion: Rev. D; PackageVersion: C04-065C, 12/2012; PackageReference: SOIC-SL14; PackageDescription: 14-Lead Plastic Small Outline, 8.65 x 3.9 mm Body, 1.27 mm Pitch; Supplier 1: Digi-Key; Supplier Part Number 1: PIC16C505T-04I/SL-ND; Supplier 2: Newark; Supplier Part Number 2: 23C3178; Supplier 3: Mouser; Supplier Part Number 3: 579-16C505T-04I/SL; RoHS: TRUE; Mounting Technology: Surface Mount; ComponentLink1Description: Datasheet; ComponentLink1URL: http://ww1.microchip.com/downloads/en/DeviceDoc/40192D.pdf; ComponentLink2Description: Package Specification; ComponentLink2URL: http://www.microchip.com/stellent/groups/techpub_sg/documents/packagingspec/en012702.pdf; ComponentLink3Description: URL Link1; ComponentLink3URL: Product URL:http://www.microchip.com/datasheet/PIC16C505
footprint MCHP-SOIC-SL14_N (SOIC, 14-Leads, Body 8.65x3.9mm, Pitch 1.27mm, IPC Medium Density)
footprint MCHP-SOIC-SL14_L (SOIC, 14-Leads, Body 8.65x3.9mm, Pitch 1.27mm, IPC High Density)
footprint MCHP-SOIC-SL14_M (SOIC, 14-Leads, Body 8.65x3.9mm, Pitch 1.27mm, IPC Low Density)
pins: 1 VDD (power) "Positive supply for logic and I/O pins", 2 RB5/OSC1/CLKIN (io), 3 RB4/OSC2/CLKOUT (io), 4 RB3/~{MCLR}/VPP (in), 5 RC5/T0CKI (io), 6 RC4 (io) "Bi-directional I/O port.", 7 RC3 (io) "Bi-directional I/O port.", 8 RC2 (io) "Bi-directional I/O port.", 9 RC1 (io) "Bi-directional I/O port.", 10 RC0 (io) "Bi-directional I/O port.", 11 RB2 (io) "Bi-directional I/O port.", 12 RB1 (io) "Bi-directional I/O port/serial programming clock. Canbe software programmed for internal weak pull-up and wake-up from SLEEP on pin change. This buffer is aSchmitt Trigger input when used in serial programmingmode.", 13 RB0 (io) "Bi-directional I/O port/serial programming data. Can be software programmed for internal weak pull-up and wake-up from SLEEP on pin change. This buffer is a Schmitt Trigger input when used in serial programming mode.", 14 VSS (power) "Ground reference for logic and I/O pins"

## PIC16C505T-20/SL
designator U?
8-Bit CMOS Microcontroller, 20 MHz, 11 I/O, 0 to 70 degC, 14-pin SOIC (SL14), Tape and Reel; Manufacturer: Microchip; PartNumber: PIC16C505T-20/SL; Digital Communication: 0 -UART, 0 -A/E/USART, 0 -SPI, 0 -I2C; I/O Pins: 11; Internal Oscillator: 4 MHz; Max. CPU Speed MHz: 20; Memory Type: OTP; Operation Voltage Range: 3V - 5.5V; Packing: T/R; Program Memory KBytes: 1.5; Program Memory KWords: 1; RAM: 72; Timers: 1 - 8-bit; DatasheetVersion: Rev. D; PackageVersion: C04-065C, 12/2012; PackageReference: SOIC-SL14; PackageDescription: 14-Lead Plastic Small Outline, 8.65 x 3.9 mm Body, 1.27 mm Pitch; Supplier 1: Digi-Key; Supplier Part Number 1: PIC16C505T-20/SL-ND; Supplier 2: Mouser; Supplier Part Number 2: 579-PIC16C505T-20/SL; RoHS: TRUE; Mounting Technology: Surface Mount; ComponentLink1Description: Datasheet; ComponentLink1URL: http://ww1.microchip.com/downloads/en/DeviceDoc/40192D.pdf; ComponentLink2Description: Package Specification; ComponentLink2URL: http://www.microchip.com/stellent/groups/techpub_sg/documents/packagingspec/en012702.pdf; ComponentLink3Description: URL Link1; ComponentLink3URL: Product URL:http://www.microchip.com/datasheet/PIC16C505
footprint MCHP-SOIC-SL14_N (SOIC, 14-Leads, Body 8.65x3.9mm, Pitch 1.27mm, IPC Medium Density)
footprint MCHP-SOIC-SL14_L (SOIC, 14-Leads, Body 8.65x3.9mm, Pitch 1.27mm, IPC High Density)
footprint MCHP-SOIC-SL14_M (SOIC, 14-Leads, Body 8.65x3.9mm, Pitch 1.27mm, IPC Low Density)
pins: 1 VDD (power) "Positive supply for logic and I/O pins", 2 RB5/OSC1/CLKIN (io), 3 RB4/OSC2/CLKOUT (io), 4 RB3/~{MCLR}/VPP (in), 5 RC5/T0CKI (io), 6 RC4 (io) "Bi-directional I/O port.", 7 RC3 (io) "Bi-directional I/O port.", 8 RC2 (io) "Bi-directional I/O port.", 9 RC1 (io) "Bi-directional I/O port.", 10 RC0 (io) "Bi-directional I/O port.", 11 RB2 (io) "Bi-directional I/O port.", 12 RB1 (io) "Bi-directional I/O port/serial programming clock. Canbe software programmed for internal weak pull-up and wake-up from SLEEP on pin change. This buffer is aSchmitt Trigger input when used in serial programmingmode.", 13 RB0 (io) "Bi-directional I/O port/serial programming data. Can be software programmed for internal weak pull-up and wake-up from SLEEP on pin change. This buffer is a Schmitt Trigger input when used in serial programming mode.", 14 VSS (power) "Ground reference for logic and I/O pins"

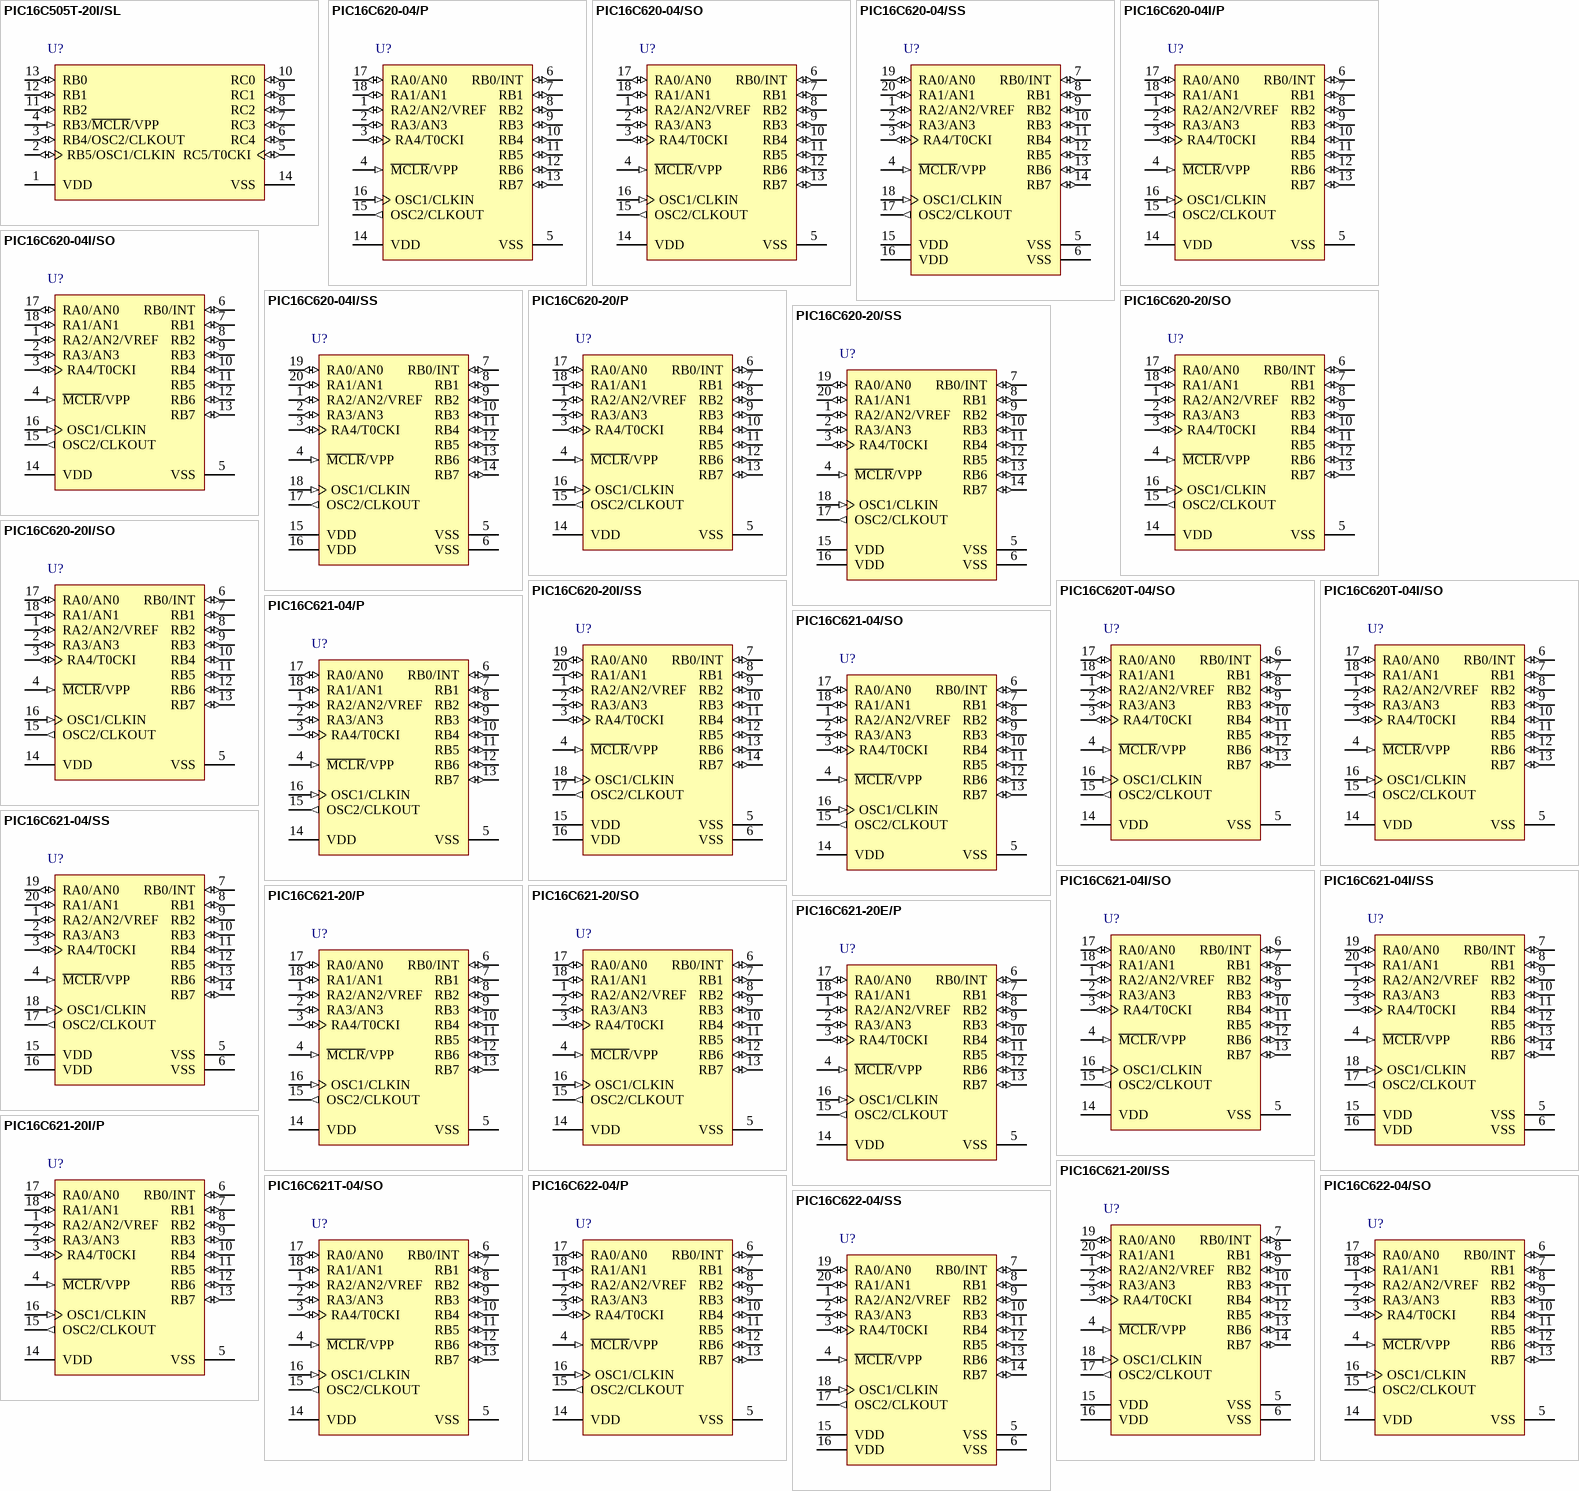
[diagram p24: symbols PIC16C505T-20I/SL to PIC16C622-04/SS]

## PIC16C505T-20I/SL
designator U?
8-Bit CMOS Microcontroller, 20 MHz, 11 I/O, -40 to 85 degC, 14-pin SOIC (SL14), Tape and Reel; Manufacturer: Microchip; PartNumber: PIC16C505T-20I/SL; Digital Communication: 0 -UART, 0 -A/E/USART, 0 -SPI, 0 -I2C; I/O Pins: 11; Internal Oscillator: 4 MHz; Max. CPU Speed MHz: 20; Memory Type: OTP; Operation Voltage Range: 3V - 5.5V; Packing: T/R; Program Memory KBytes: 1.5; Program Memory KWords: 1; RAM: 72; Timers: 1 - 8-bit; DatasheetVersion: Rev. D; PackageVersion: C04-065C, 12/2012; PackageReference: SOIC-SL14; PackageDescription: 14-Lead Plastic Small Outline, 8.65 x 3.9 mm Body, 1.27 mm Pitch; Supplier 1: Digi-Key; Supplier Part Number 1: PIC16C505T-20I/SL-ND; Supplier 2: Mouser; Supplier Part Number 2: 579-16C505T-20I/SL; RoHS: TRUE; Mounting Technology: Surface Mount; ComponentLink1Description: Datasheet; ComponentLink1URL: http://ww1.microchip.com/downloads/en/DeviceDoc/40192D.pdf; ComponentLink2Description: Package Specification; ComponentLink2URL: http://www.microchip.com/stellent/groups/techpub_sg/documents/packagingspec/en012702.pdf; ComponentLink3Description: URL Link1; ComponentLink3URL: Product URL:http://www.microchip.com/datasheet/PIC16C505
footprint MCHP-SOIC-SL14_N (SOIC, 14-Leads, Body 8.65x3.9mm, Pitch 1.27mm, IPC Medium Density)
footprint MCHP-SOIC-SL14_L (SOIC, 14-Leads, Body 8.65x3.9mm, Pitch 1.27mm, IPC High Density)
footprint MCHP-SOIC-SL14_M (SOIC, 14-Leads, Body 8.65x3.9mm, Pitch 1.27mm, IPC Low Density)
pins: 1 VDD (power) "Positive supply for logic and I/O pins", 2 RB5/OSC1/CLKIN (io), 3 RB4/OSC2/CLKOUT (io), 4 RB3/~{MCLR}/VPP (in), 5 RC5/T0CKI (io), 6 RC4 (io) "Bi-directional I/O port.", 7 RC3 (io) "Bi-directional I/O port.", 8 RC2 (io) "Bi-directional I/O port.", 9 RC1 (io) "Bi-directional I/O port.", 10 RC0 (io) "Bi-directional I/O port.", 11 RB2 (io) "Bi-directional I/O port.", 12 RB1 (io) "Bi-directional I/O port/serial programming clock. Canbe software programmed for internal weak pull-up and wake-up from SLEEP on pin change. This buffer is aSchmitt Trigger input when used in serial programmingmode.", 13 RB0 (io) "Bi-directional I/O port/serial programming data. Can be software programmed for internal weak pull-up and wake-up from SLEEP on pin change. This buffer is a Schmitt Trigger input when used in serial programming mode.", 14 VSS (power) "Ground reference for logic and I/O pins"

## PIC16C620-04/P
designator U?
EPROM-Based 8-Bit CMOS Microcontroller, 4 MHz, 13 I/O, 0 to 70 degC, 18-pin PDIP (P18), Tube; Manufacturer: Microchip; PartNumber: PIC16C620-04/P; I/O Pins: 13; Max. CPU Speed MHz: 4; Memory Type: OTP; Operation Voltage Range: 3V - 6V; Program Memory KBytes: 0.875; Program Memory KWords: 0.5; RAM: 80; Timers: 1 - 8-bit; DatasheetVersion: Rev. J; PackageVersion: C04-007B, 12/2012; PackageReference: PDIP-P18; PackageDescription: 18-Lead Plastic Dual In-Line, Row Spacing 7.62 mm, 22.86 x 6.6 mm Body, 2.54 mm Pitch; Supplier 1: Digi-Key; Supplier Part Number 1: PIC16C620-04/P-ND; Supplier 2: Farnell; Supplier Part Number 2: 1196828; Supplier 3: Newark; Supplier Part Number 3: 24M5866; Supplier 4: Mouser; Supplier Part Number 4: 579-PIC16C620-04/P; Packing: TUBE; RoHS: TRUE; Mounting Technology: Through Hole; ComponentLink1Description: Datasheet; ComponentLink1URL: http://ww1.microchip.com/downloads/en/DeviceDoc/30235j.pdf; ComponentLink2Description: Package Specification; ComponentLink2URL: http://www.microchip.com/stellent/groups/techpub_sg/documents/packagingspec/en012702.pdf; ComponentLink3Description: URL Link1; ComponentLink3URL: Product URL:http://www.microchip.com/datasheet/PIC16C620
footprint MCHP-PDIP-P18 (DIP, 18-Leads, Body 22.83x6.604mm, Pitch 2.54mm)
pins: 1 RA2/AN2/VREF (io), 2 RA3/AN3 (io), 3 RA4/T0CKI (io), 4 ~{MCLR}/VPP (in), 5 VSS (power) "Ground reference for logic and I/O pins.", 6 RB0/INT (io), 7 RB1 (io) "PORTB is a bi-directional I/O port. PORTB can be software programmed for internal weak pull-up on all inputs.", 8 RB2 (io) "PORTB is a bi-directional I/O port. PORTB can be software programmed for internal weak pull-up on all inputs.", 9 RB3 (io) "PORTB is a bi-directional I/O port. PORTB can be software programmed for internal weak pull-up on all inputs.", 10 RB4 (io) "PORTB is a bi-directional I/O port. PORTB can be software programmed for internal weak pull-up on all inputs. Interrupt-on-change pin.", 11 RB5 (io) "PORTB is a bi-directional I/O port. PORTB can be software programmed for internal weak pull-up on all inputs. Interrupt-on-change pin.", 12 RB6 (io) "PORTB is a bi-directional I/O port. PORTB can be software programmed for internal weak pull-up on all inputs. Interrupt on change pin. Serial programming clock.", 13 RB7 (io) "PORTB is a bi-directional I/O port. PORTB can be software programmed for internal weak pull-up on all inputs. Interrupt on change pin. Serial programming data.", 14 VDD (power) "Positive supply for logic and I/O pins.", 15 OSC2/CLKOUT (out), 16 OSC1/CLKIN (in), 17 RA0/AN0 (io), 18 RA1/AN1 (io)

## PIC16C620-04/SO
designator U?
EPROM-Based 8-Bit CMOS Microcontroller, 4 MHz, 13 I/O, 0 to 70 degC, 18-pin SOIC (SO18), Tube; Manufacturer: Microchip; PartNumber: PIC16C620-04/SO; I/O Pins: 13; Max. CPU Speed MHz: 4; Memory Type: OTP; Operation Voltage Range: 3V - 6V; Program Memory KBytes: 0.875; Program Memory KWords: 0.5; RAM: 80; Timers: 1 - 8-bit; DatasheetVersion: Rev. J; PackageVersion: C04-051C, 12/2012; PackageReference: SOIC-SO18; PackageDescription: 18-Lead Plastic Small Outline, 7.5 x 11.55 mm Body, 1.27 mm Pitch; Supplier 1: Digi-Key; Supplier Part Number 1: PIC16C620-04/SO-ND; Supplier 2: Mouser; Supplier Part Number 2: 579-PIC16C620-04/SO; Packing: TUBE; RoHS: TRUE; Mounting Technology: Surface Mount; ComponentLink1Description: Datasheet; ComponentLink1URL: http://ww1.microchip.com/downloads/en/DeviceDoc/30235j.pdf; ComponentLink2Description: Package Specification; ComponentLink2URL: http://www.microchip.com/stellent/groups/techpub_sg/documents/packagingspec/en012702.pdf; ComponentLink3Description: URL Link1; ComponentLink3URL: Product URL:http://www.microchip.com/datasheet/PIC16C620
footprint MCHP-SOIC-SO18_N (SOIC, 18-Leads, Body 11.55x7.5mm, Pitch 1.27mm, IPC Medium Density)
footprint MCHP-SOIC-SO18_L (SOIC, 18-Leads, Body 11.55x7.5mm, Pitch 1.27mm, IPC High Density)
footprint MCHP-SOIC-SO18_M (SOIC, 18-Leads, Body 11.55x7.5mm, Pitch 1.27mm, IPC Low Density)
pins: 1 RA2/AN2/VREF (io), 2 RA3/AN3 (io), 3 RA4/T0CKI (io), 4 ~{MCLR}/VPP (in), 5 VSS (power) "Ground reference for logic and I/O pins.", 6 RB0/INT (io), 7 RB1 (io) "PORTB is a bi-directional I/O port. PORTB can be software programmed for internal weak pull-up on all inputs.", 8 RB2 (io) "PORTB is a bi-directional I/O port. PORTB can be software programmed for internal weak pull-up on all inputs.", 9 RB3 (io) "PORTB is a bi-directional I/O port. PORTB can be software programmed for internal weak pull-up on all inputs.", 10 RB4 (io) "PORTB is a bi-directional I/O port. PORTB can be software programmed for internal weak pull-up on all inputs. Interrupt-on-change pin.", 11 RB5 (io) "PORTB is a bi-directional I/O port. PORTB can be software programmed for internal weak pull-up on all inputs. Interrupt-on-change pin.", 12 RB6 (io) "PORTB is a bi-directional I/O port. PORTB can be software programmed for internal weak pull-up on all inputs. Interrupt on change pin. Serial programming clock.", 13 RB7 (io) "PORTB is a bi-directional I/O port. PORTB can be software programmed for internal weak pull-up on all inputs. Interrupt on change pin. Serial programming data.", 14 VDD (power) "Positive supply for logic and I/O pins.", 15 OSC2/CLKOUT (out), 16 OSC1/CLKIN (in), 17 RA0/AN0 (io), 18 RA1/AN1 (io)